# Altium footprint library SC0915.PcbLib: 1 footprints
Each footprint in its own frame and in the unit in brackets; x right, y up, seen from the top. Pads: shape width x height; smd on the part's side, far side on the other; paste and mask are expansions set on the pad; w line width, h text height; cw(c..) or ccw(c..) is an arc to the next point about the centre after c.
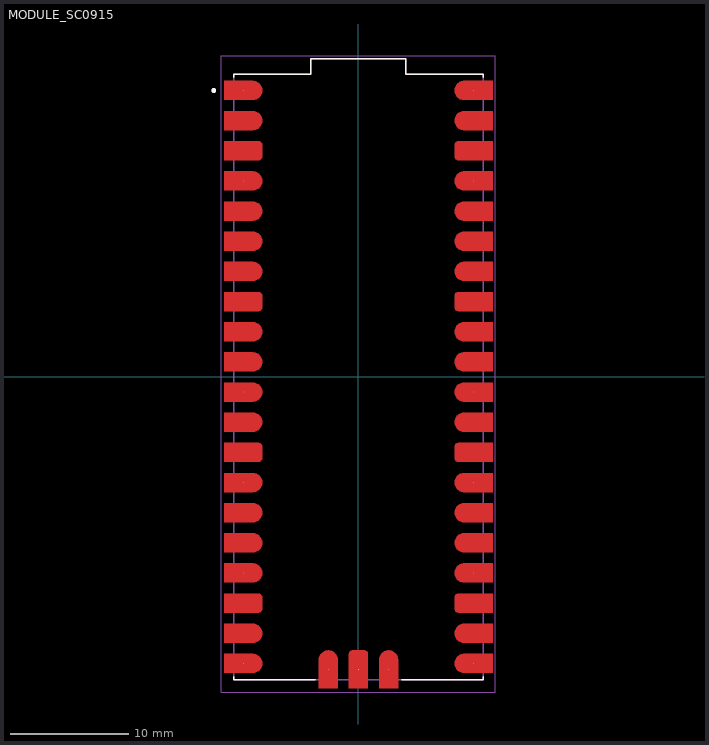
[diagram p0: the footprint, top view; thin cyan lines are the x and y axes]

## MODULE_SC0915 [mil]
pads (43):
  round 1 smd paste-39.37 mask+3.94: 1(-381.89,950) 2(-381.89,850) 3(-381.89,750.38) 4(-381.89,650) 5(-381.89,550) 6(-381.89,450) 7(-381.89,350) 8(-381.89,250) 9(-381.89,150) 10(-381.89,50) 11(-381.89,-50) 12(-381.89,-150) 13(-381.89,-250) 14(-381.89,-350) 15(-381.89,-450) 16(-381.89,-550) 17(-381.89,-650) 18(-381.89,-750) 19(-381.89,-850) 20(-381.89,-950) 21(381.89,-950) 22(381.89,-850) 23(381.89,-750) 24(381.89,-650) 25(381.89,-550) 26(381.89,-450) 27(381.89,-350) 28(381.89,-250) 29(381.89,-150) 30(381.89,-50) 31(381.89,50) 32(381.89,150) 33(381.89,250) 34(381.89,350) 35(381.89,450) 36(381.89,550) 37(381.89,650) 38(381.89,750) 39(381.89,850) 40(381.89,950) D1(-100,-970) D2(0,-970) D3(100,-970)
Top Layer:
  region: 68.5,-1032.99 131.5,-1032.99 131.5,-938.5 131.5,-936.44 130.96,-932.35 129.89,-928.36 128.31,-924.54 126.24,-920.97 123.73,-917.69 120.81,-914.77 117.54,-912.26 113.96,-910.2 110.15,-908.62 106.16,-907.55 102.06,-907.01 100,-907.01 97.94,-907.01 93.84,-907.55 89.85,-908.62 86.04,-910.2 82.46,-912.26 79.19,-914.77 76.27,-917.69 73.76,-920.97 71.69,-924.54 70.11,-928.36 69.04,-932.35 68.5,-936.44 68.5,-938.5
  region: -31.5,-1032.99 31.5,-1032.99 31.5,-919.61 31.5,-918.37 31.01,-915.93 30.06,-913.64 28.68,-911.58 26.93,-909.82 24.87,-908.44 22.57,-907.49 20.14,-907.01 18.9,-907.01 -18.9,-907.01 -20.14,-907.01 -22.57,-907.49 -24.87,-908.44 -26.93,-909.82 -28.68,-911.58 -30.06,-913.64 -31.01,-915.93 -31.5,-918.37 -31.5,-919.61
  region: -131.5,-1032.99 -68.5,-1032.99 -68.5,-938.5 -68.5,-936.44 -69.04,-932.35 -70.11,-928.36 -71.69,-924.54 -73.76,-920.97 -76.27,-917.69 -79.19,-914.77 -82.46,-912.26 -86.04,-910.2 -89.85,-908.62 -93.84,-907.55 -97.94,-907.01 -100,-907.01 -102.06,-907.01 -106.16,-907.55 -110.15,-908.62 -113.96,-910.2 -117.54,-912.26 -120.81,-914.77 -123.73,-917.69 -126.24,-920.97 -128.31,-924.54 -129.89,-928.36 -130.96,-932.35 -131.5,-936.44 -131.5,-938.5
  region: -444.88,918.5 -350.39,918.5 -348.33,918.5 -344.24,919.04 -340.25,920.11 -336.43,921.69 -332.86,923.76 -329.58,926.27 -326.66,929.19 -324.15,932.46 -322.09,936.04 -320.51,939.85 -319.44,943.84 -318.9,947.94 -318.9,950 -318.9,952.06 -319.44,956.16 -320.51,960.15 -322.09,963.96 -324.15,967.54 -326.66,970.81 -329.58,973.73 -332.86,976.24 -336.43,978.31 -340.25,979.89 -344.24,980.96 -348.33,981.5 -350.39,981.5 -444.88,981.5
  region: 318.9,-768.9 318.9,-770.14 319.38,-772.57 320.33,-774.87 321.71,-776.93 323.46,-778.68 325.53,-780.06 327.82,-781.01 330.26,-781.5 331.5,-781.5 444.88,-781.5 444.88,-718.5 331.5,-718.5 330.26,-718.5 327.82,-718.99 325.53,-719.94 323.46,-721.32 321.71,-723.07 320.33,-725.13 319.38,-727.43 318.9,-729.86 318.9,-731.1
  region: 318.9,-268.9 318.9,-270.14 319.38,-272.57 320.33,-274.87 321.71,-276.93 323.46,-278.68 325.53,-280.06 327.82,-281.01 330.26,-281.5 331.5,-281.5 444.88,-281.5 444.88,-218.5 331.5,-218.5 330.26,-218.5 327.82,-218.99 325.53,-219.94 323.46,-221.32 321.71,-223.07 320.33,-225.13 319.38,-227.43 318.9,-229.86 318.9,-231.1
  region: 318.9,231.1 318.9,229.86 319.38,227.43 320.33,225.13 321.71,223.07 323.46,221.32 325.53,219.94 327.82,218.99 330.26,218.5 331.5,218.5 444.88,218.5 444.88,281.5 331.5,281.5 330.26,281.5 327.82,281.01 325.53,280.06 323.46,278.68 321.71,276.93 320.33,274.87 319.38,272.57 318.9,270.14 318.9,268.9
  region: 318.9,-950 318.9,-952.06 319.44,-956.16 320.51,-960.15 322.09,-963.96 324.15,-967.54 326.66,-970.81 329.58,-973.73 332.86,-976.24 336.43,-978.31 340.25,-979.89 344.24,-980.96 348.33,-981.5 350.39,-981.5 444.88,-981.5 444.88,-918.5 350.39,-918.5 348.33,-918.5 344.24,-919.04 340.25,-920.11 336.43,-921.69 332.86,-923.76 329.58,-926.27 326.66,-929.19 324.15,-932.46 322.09,-936.04 320.51,-939.85 319.44,-943.84 318.9,-947.94
  region: 318.9,-850 318.9,-852.06 319.44,-856.16 320.51,-860.15 322.09,-863.96 324.15,-867.54 326.66,-870.81 329.58,-873.73 332.86,-876.24 336.43,-878.31 340.25,-879.89 344.24,-880.96 348.33,-881.5 350.39,-881.5 444.88,-881.5 444.88,-818.5 350.39,-818.5 348.33,-818.5 344.24,-819.04 340.25,-820.11 336.43,-821.69 332.86,-823.76 329.58,-826.27 326.66,-829.19 324.15,-832.46 322.09,-836.04 320.51,-839.85 319.44,-843.84 318.9,-847.94
  region: 318.9,-650 318.9,-652.06 319.44,-656.16 320.51,-660.15 322.09,-663.96 324.15,-667.54 326.66,-670.81 329.58,-673.73 332.86,-676.24 336.43,-678.31 340.25,-679.89 344.24,-680.96 348.33,-681.5 350.39,-681.5 444.88,-681.5 444.88,-618.5 350.39,-618.5 348.33,-618.5 344.24,-619.04 340.25,-620.11 336.43,-621.69 332.86,-623.76 329.58,-626.27 326.66,-629.19 324.15,-632.46 322.09,-636.04 320.51,-639.85 319.44,-643.84 318.9,-647.94
  region: 318.9,-550 318.9,-552.06 319.44,-556.16 320.51,-560.15 322.09,-563.96 324.15,-567.54 326.66,-570.81 329.58,-573.73 332.86,-576.24 336.43,-578.31 340.25,-579.89 344.24,-580.96 348.33,-581.5 350.39,-581.5 444.88,-581.5 444.88,-518.5 350.39,-518.5 348.33,-518.5 344.24,-519.04 340.25,-520.11 336.43,-521.69 332.86,-523.76 329.58,-526.27 326.66,-529.19 324.15,-532.46 322.09,-536.04 320.51,-539.85 319.44,-543.84 318.9,-547.94
  region: 318.9,-450 318.9,-452.06 319.44,-456.16 320.51,-460.15 322.09,-463.96 324.15,-467.54 326.66,-470.81 329.58,-473.73 332.86,-476.24 336.43,-478.31 340.25,-479.89 344.24,-480.96 348.33,-481.5 350.39,-481.5 444.88,-481.5 444.88,-418.5 350.39,-418.5 348.33,-418.5 344.24,-419.04 340.25,-420.11 336.43,-421.69 332.86,-423.76 329.58,-426.27 326.66,-429.19 324.15,-432.46 322.09,-436.04 320.51,-439.85 319.44,-443.84 318.9,-447.94
  region: 318.9,-350 318.9,-352.06 319.44,-356.16 320.51,-360.15 322.09,-363.96 324.15,-367.54 326.66,-370.81 329.58,-373.73 332.86,-376.24 336.43,-378.31 340.25,-379.89 344.24,-380.96 348.33,-381.5 350.39,-381.5 444.88,-381.5 444.88,-318.5 350.39,-318.5 348.33,-318.5 344.24,-319.04 340.25,-320.11 336.43,-321.69 332.86,-323.76 329.58,-326.27 326.66,-329.19 324.15,-332.46 322.09,-336.04 320.51,-339.85 319.44,-343.84 318.9,-347.94
  region: 318.9,-150 318.9,-152.06 319.44,-156.16 320.51,-160.15 322.09,-163.96 324.15,-167.54 326.66,-170.81 329.58,-173.73 332.86,-176.24 336.43,-178.31 340.25,-179.89 344.24,-180.96 348.33,-181.5 350.39,-181.5 444.88,-181.5 444.88,-118.5 350.39,-118.5 348.33,-118.5 344.24,-119.04 340.25,-120.11 336.43,-121.69 332.86,-123.76 329.58,-126.27 326.66,-129.19 324.15,-132.46 322.09,-136.04 320.51,-139.85 319.44,-143.84 318.9,-147.94
  region: 318.9,-50 318.9,-52.06 319.44,-56.16 320.51,-60.15 322.09,-63.96 324.15,-67.54 326.66,-70.81 329.58,-73.73 332.86,-76.24 336.43,-78.31 340.25,-79.89 344.24,-80.96 348.33,-81.5 350.39,-81.5 444.88,-81.5 444.88,-18.5 350.39,-18.5 348.33,-18.5 344.24,-19.04 340.25,-20.11 336.43,-21.69 332.86,-23.76 329.58,-26.27 326.66,-29.19 324.15,-32.46 322.09,-36.04 320.51,-39.85 319.44,-43.84 318.9,-47.94
  region: 318.9,50 318.9,47.94 319.44,43.84 320.51,39.85 322.09,36.04 324.15,32.46 326.66,29.19 329.58,26.27 332.86,23.76 336.43,21.69 340.25,20.11 344.24,19.04 348.33,18.5 350.39,18.5 444.88,18.5 444.88,81.5 350.39,81.5 348.33,81.5 344.24,80.96 340.25,79.89 336.43,78.31 332.86,76.24 329.58,73.73 326.66,70.81 324.15,67.54 322.09,63.96 320.51,60.15 319.44,56.16 318.9,52.06
  region: 318.9,150 318.9,147.94 319.44,143.84 320.51,139.85 322.09,136.04 324.15,132.46 326.66,129.19 329.58,126.27 332.86,123.76 336.43,121.69 340.25,120.11 344.24,119.04 348.33,118.5 350.39,118.5 444.88,118.5 444.88,181.5 350.39,181.5 348.33,181.5 344.24,180.96 340.25,179.89 336.43,178.31 332.86,176.24 329.58,173.73 326.66,170.81 324.15,167.54 322.09,163.96 320.51,160.15 319.44,156.16 318.9,152.06
  region: 350.39,318.5 348.33,318.5 344.24,319.04 340.25,320.11 336.43,321.69 332.86,323.76 329.58,326.27 326.66,329.19 324.15,332.46 322.09,336.04 320.51,339.85 319.44,343.84 318.9,347.94 318.9,350 318.9,352.06 319.44,356.16 320.51,360.15 322.09,363.96 324.15,367.54 326.66,370.81 329.58,373.73 332.86,376.24 336.43,378.31 340.25,379.89 344.24,380.96 348.33,381.5 350.39,381.5 444.88,381.5 444.88,318.5
  region: 350.39,418.5 348.33,418.5 344.24,419.04 340.25,420.11 336.43,421.69 332.86,423.76 329.58,426.27 326.66,429.19 324.15,432.46 322.09,436.04 320.51,439.85 319.44,443.84 318.9,447.94 318.9,450 318.9,452.06 319.44,456.16 320.51,460.15 322.09,463.96 324.15,467.54 326.66,470.81 329.58,473.73 332.86,476.24 336.43,478.31 340.25,479.89 344.24,480.96 348.33,481.5 350.39,481.5 444.88,481.5 444.88,418.5
  region: 350.39,518.5 348.33,518.5 344.24,519.04 340.25,520.11 336.43,521.69 332.86,523.76 329.58,526.27 326.66,529.19 324.15,532.46 322.09,536.04 320.51,539.85 319.44,543.84 318.9,547.94 318.9,550 318.9,552.06 319.44,556.16 320.51,560.15 322.09,563.96 324.15,567.54 326.66,570.81 329.58,573.73 332.86,576.24 336.43,578.31 340.25,579.89 344.24,580.96 348.33,581.5 350.39,581.5 444.88,581.5 444.88,518.5
  region: 350.39,618.5 348.33,618.5 344.24,619.04 340.25,620.11 336.43,621.69 332.86,623.76 329.58,626.27 326.66,629.19 324.15,632.46 322.09,636.04 320.51,639.85 319.44,643.84 318.9,647.94 318.9,650 318.9,652.06 319.44,656.16 320.51,660.15 322.09,663.96 324.15,667.54 326.66,670.81 329.58,673.73 332.86,676.24 336.43,678.31 340.25,679.89 344.24,680.96 348.33,681.5 350.39,681.5 444.88,681.5 444.88,618.5
  region: 350.39,818.5 348.33,818.5 344.24,819.04 340.25,820.11 336.43,821.69 332.86,823.76 329.58,826.27 326.66,829.19 324.15,832.46 322.09,836.04 320.51,839.85 319.44,843.84 318.9,847.94 318.9,850 318.9,852.06 319.44,856.16 320.51,860.15 322.09,863.96 324.15,867.54 326.66,870.81 329.58,873.73 332.86,876.24 336.43,878.31 340.25,879.89 344.24,880.96 348.33,881.5 350.39,881.5 444.88,881.5 444.88,818.5
  region: -444.88,-781.5 -331.5,-781.5 -330.26,-781.5 -327.82,-781.01 -325.53,-780.06 -323.46,-778.68 -321.71,-776.93 -320.33,-774.87 -319.38,-772.57 -318.9,-770.14 -318.9,-768.9 -318.9,-731.1 -318.9,-729.86 -319.38,-727.43 -320.33,-725.13 -321.71,-723.07 -323.46,-721.32 -325.53,-719.94 -327.82,-718.99 -330.26,-718.5 -331.5,-718.5 -444.88,-718.5
  region: -444.88,-281.5 -331.5,-281.5 -330.26,-281.5 -327.82,-281.01 -325.53,-280.06 -323.46,-278.68 -321.71,-276.93 -320.33,-274.87 -319.38,-272.57 -318.9,-270.14 -318.9,-268.9 -318.9,-231.1 -318.9,-229.86 -319.38,-227.43 -320.33,-225.13 -321.71,-223.07 -323.46,-221.32 -325.53,-219.94 -327.82,-218.99 -330.26,-218.5 -331.5,-218.5 -444.88,-218.5
  region: -444.88,218.5 -331.5,218.5 -330.26,218.5 -327.82,218.99 -325.53,219.94 -323.46,221.32 -321.71,223.07 -320.33,225.13 -319.38,227.43 -318.9,229.86 -318.9,231.1 -318.9,268.9 -318.9,270.14 -319.38,272.57 -320.33,274.87 -321.71,276.93 -323.46,278.68 -325.53,280.06 -327.82,281.01 -330.26,281.5 -331.5,281.5 -444.88,281.5
  region: -444.88,718.88 -331.5,718.88 -330.26,718.88 -327.82,719.37 -325.53,720.32 -323.46,721.69 -321.71,723.45 -320.33,725.51 -319.38,727.81 -318.9,730.24 -318.9,731.48 -318.9,769.28 -318.9,770.52 -319.38,772.95 -320.33,775.24 -321.71,777.31 -323.46,779.06 -325.53,780.44 -327.82,781.39 -330.26,781.87 -331.5,781.87 -444.88,781.87
  region: -444.88,-981.5 -350.39,-981.5 -348.33,-981.5 -344.24,-980.96 -340.25,-979.89 -336.43,-978.31 -332.86,-976.24 -329.58,-973.73 -326.66,-970.81 -324.15,-967.54 -322.09,-963.96 -320.51,-960.15 -319.44,-956.16 -318.9,-952.06 -318.9,-950 -318.9,-947.94 -319.44,-943.84 -320.51,-939.85 -322.09,-936.04 -324.15,-932.46 -326.66,-929.19 -329.58,-926.27 -332.86,-923.76 -336.43,-921.69 -340.25,-920.11 -344.24,-919.04 -348.33,-918.5 -350.39,-918.5 -444.88,-918.5
  region: -444.88,-881.5 -350.39,-881.5 -348.33,-881.5 -344.24,-880.96 -340.25,-879.89 -336.43,-878.31 -332.86,-876.24 -329.58,-873.73 -326.66,-870.81 -324.15,-867.54 -322.09,-863.96 -320.51,-860.15 -319.44,-856.16 -318.9,-852.06 -318.9,-850 -318.9,-847.94 -319.44,-843.84 -320.51,-839.85 -322.09,-836.04 -324.15,-832.46 -326.66,-829.19 -329.58,-826.27 -332.86,-823.76 -336.43,-821.69 -340.25,-820.11 -344.24,-819.04 -348.33,-818.5 -350.39,-818.5 -444.88,-818.5
  region: -444.88,-681.5 -350.39,-681.5 -348.33,-681.5 -344.24,-680.96 -340.25,-679.89 -336.43,-678.31 -332.86,-676.24 -329.58,-673.73 -326.66,-670.81 -324.15,-667.54 -322.09,-663.96 -320.51,-660.15 -319.44,-656.16 -318.9,-652.06 -318.9,-650 -318.9,-647.94 -319.44,-643.84 -320.51,-639.85 -322.09,-636.04 -324.15,-632.46 -326.66,-629.19 -329.58,-626.27 -332.86,-623.76 -336.43,-621.69 -340.25,-620.11 -344.24,-619.04 -348.33,-618.5 -350.39,-618.5 -444.88,-618.5
  region: -444.88,-581.5 -350.39,-581.5 -348.33,-581.5 -344.24,-580.96 -340.25,-579.89 -336.43,-578.31 -332.86,-576.24 -329.58,-573.73 -326.66,-570.81 -324.15,-567.54 -322.09,-563.96 -320.51,-560.15 -319.44,-556.16 -318.9,-552.06 -318.9,-550 -318.9,-547.94 -319.44,-543.84 -320.51,-539.85 -322.09,-536.04 -324.15,-532.46 -326.66,-529.19 -329.58,-526.27 -332.86,-523.76 -336.43,-521.69 -340.25,-520.11 -344.24,-519.04 -348.33,-518.5 -350.39,-518.5 -444.88,-518.5
  region: -444.88,-481.5 -350.39,-481.5 -348.33,-481.5 -344.24,-480.96 -340.25,-479.89 -336.43,-478.31 -332.86,-476.24 -329.58,-473.73 -326.66,-470.81 -324.15,-467.54 -322.09,-463.96 -320.51,-460.15 -319.44,-456.16 -318.9,-452.06 -318.9,-450 -318.9,-447.94 -319.44,-443.84 -320.51,-439.85 -322.09,-436.04 -324.15,-432.46 -326.66,-429.19 -329.58,-426.27 -332.86,-423.76 -336.43,-421.69 -340.25,-420.11 -344.24,-419.04 -348.33,-418.5 -350.39,-418.5 -444.88,-418.5
  region: -444.88,-381.5 -350.39,-381.5 -348.33,-381.5 -344.24,-380.96 -340.25,-379.89 -336.43,-378.31 -332.86,-376.24 -329.58,-373.73 -326.66,-370.81 -324.15,-367.54 -322.09,-363.96 -320.51,-360.15 -319.44,-356.16 -318.9,-352.06 -318.9,-350 -318.9,-347.94 -319.44,-343.84 -320.51,-339.85 -322.09,-336.04 -324.15,-332.46 -326.66,-329.19 -329.58,-326.27 -332.86,-323.76 -336.43,-321.69 -340.25,-320.11 -344.24,-319.04 -348.33,-318.5 -350.39,-318.5 -444.88,-318.5
  region: -444.88,-181.5 -350.39,-181.5 -348.33,-181.5 -344.24,-180.96 -340.25,-179.89 -336.43,-178.31 -332.86,-176.24 -329.58,-173.73 -326.66,-170.81 -324.15,-167.54 -322.09,-163.96 -320.51,-160.15 -319.44,-156.16 -318.9,-152.06 -318.9,-150 -318.9,-147.94 -319.44,-143.84 -320.51,-139.85 -322.09,-136.04 -324.15,-132.46 -326.66,-129.19 -329.58,-126.27 -332.86,-123.76 -336.43,-121.69 -340.25,-120.11 -344.24,-119.04 -348.33,-118.5 -350.39,-118.5 -444.88,-118.5
  region: -444.88,-81.5 -350.39,-81.5 -348.33,-81.5 -344.24,-80.96 -340.25,-79.89 -336.43,-78.31 -332.86,-76.24 -329.58,-73.73 -326.66,-70.81 -324.15,-67.54 -322.09,-63.96 -320.51,-60.15 -319.44,-56.16 -318.9,-52.06 -318.9,-50 -318.9,-47.94 -319.44,-43.84 -320.51,-39.85 -322.09,-36.04 -324.15,-32.46 -326.66,-29.19 -329.58,-26.27 -332.86,-23.76 -336.43,-21.69 -340.25,-20.11 -344.24,-19.04 -348.33,-18.5 -350.39,-18.5 -444.88,-18.5
  region: -444.88,18.5 -350.39,18.5 -348.33,18.5 -344.24,19.04 -340.25,20.11 -336.43,21.69 -332.86,23.76 -329.58,26.27 -326.66,29.19 -324.15,32.46 -322.09,36.04 -320.51,39.85 -319.44,43.84 -318.9,47.94 -318.9,50 -318.9,52.06 -319.44,56.16 -320.51,60.15 -322.09,63.96 -324.15,67.54 -326.66,70.81 -329.58,73.73 -332.86,76.24 -336.43,78.31 -340.25,79.89 -344.24,80.96 -348.33,81.5 -350.39,81.5 -444.88,81.5
  region: -444.88,118.5 -350.39,118.5 -348.33,118.5 -344.24,119.04 -340.25,120.11 -336.43,121.69 -332.86,123.76 -329.58,126.27 -326.66,129.19 -324.15,132.46 -322.09,136.04 -320.51,139.85 -319.44,143.84 -318.9,147.94 -318.9,150 -318.9,152.06 -319.44,156.16 -320.51,160.15 -322.09,163.96 -324.15,167.54 -326.66,170.81 -329.58,173.73 -332.86,176.24 -336.43,178.31 -340.25,179.89 -344.24,180.96 -348.33,181.5 -350.39,181.5 -444.88,181.5
  region: -444.88,318.5 -350.39,318.5 -348.33,318.5 -344.24,319.04 -340.25,320.11 -336.43,321.69 -332.86,323.76 -329.58,326.27 -326.66,329.19 -324.15,332.46 -322.09,336.04 -320.51,339.85 -319.44,343.84 -318.9,347.94 -318.9,350 -318.9,352.06 -319.44,356.16 -320.51,360.15 -322.09,363.96 -324.15,367.54 -326.66,370.81 -329.58,373.73 -332.86,376.24 -336.43,378.31 -340.25,379.89 -344.24,380.96 -348.33,381.5 -350.39,381.5 -444.88,381.5
  region: -444.88,418.5 -350.39,418.5 -348.33,418.5 -344.24,419.04 -340.25,420.11 -336.43,421.69 -332.86,423.76 -329.58,426.27 -326.66,429.19 -324.15,432.46 -322.09,436.04 -320.51,439.85 -319.44,443.84 -318.9,447.94 -318.9,450 -318.9,452.06 -319.44,456.16 -320.51,460.15 -322.09,463.96 -324.15,467.54 -326.66,470.81 -329.58,473.73 -332.86,476.24 -336.43,478.31 -340.25,479.89 -344.24,480.96 -348.33,481.5 -350.39,481.5 -444.88,481.5
  region: -444.88,518.5 -350.39,518.5 -348.33,518.5 -344.24,519.04 -340.25,520.11 -336.43,521.69 -332.86,523.76 -329.58,526.27 -326.66,529.19 -324.15,532.46 -322.09,536.04 -320.51,539.85 -319.44,543.84 -318.9,547.94 -318.9,550 -318.9,552.06 -319.44,556.16 -320.51,560.15 -322.09,563.96 -324.15,567.54 -326.66,570.81 -329.58,573.73 -332.86,576.24 -336.43,578.31 -340.25,579.89 -344.24,580.96 -348.33,581.5 -350.39,581.5 -444.88,581.5
  region: -444.88,618.5 -350.39,618.5 -348.33,618.5 -344.24,619.04 -340.25,620.11 -336.43,621.69 -332.86,623.76 -329.58,626.27 -326.66,629.19 -324.15,632.46 -322.09,636.04 -320.51,639.85 -319.44,643.84 -318.9,647.94 -318.9,650 -318.9,652.06 -319.44,656.16 -320.51,660.15 -322.09,663.96 -324.15,667.54 -326.66,670.81 -329.58,673.73 -332.86,676.24 -336.43,678.31 -340.25,679.89 -344.24,680.96 -348.33,681.5 -350.39,681.5 -444.88,681.5
  region: -444.88,818.5 -350.39,818.5 -348.33,818.5 -344.24,819.04 -340.25,820.11 -336.43,821.69 -332.86,823.76 -329.58,826.27 -326.66,829.19 -324.15,832.46 -322.09,836.04 -320.51,839.85 -319.44,843.84 -318.9,847.94 -318.9,850 -318.9,852.06 -319.44,856.16 -320.51,860.15 -322.09,863.96 -324.15,867.54 -326.66,870.81 -329.58,873.73 -332.86,876.24 -336.43,878.31 -340.25,879.89 -344.24,880.96 -348.33,881.5 -350.39,881.5 -444.88,881.5
  region: 331.5,718.5 330.26,718.5 327.82,718.99 325.53,719.94 323.46,721.32 321.71,723.07 320.33,725.13 319.38,727.43 318.9,729.86 318.9,731.1 318.9,768.9 318.9,770.14 319.38,772.57 320.33,774.87 321.71,776.93 323.46,778.68 325.53,780.06 327.82,781.01 330.26,781.5 331.5,781.5 444.88,781.5 444.88,718.5
  region: 350.39,918.5 348.33,918.5 344.24,919.04 340.25,920.11 336.43,921.69 332.86,923.76 329.58,926.27 326.66,929.19 324.15,932.46 322.09,936.04 320.51,939.85 319.44,943.84 318.9,947.94 318.9,950 318.9,952.06 319.44,956.16 320.51,960.15 322.09,963.96 324.15,967.54 326.66,970.81 329.58,973.73 332.86,976.24 336.43,978.31 340.25,979.89 344.24,980.96 348.33,981.5 350.39,981.5 444.88,981.5 444.88,918.5
Top Overlay:
  circle w7.87: c-479.92,950 r3.94
  lines w5: -413.39,-994.09 -413.39,-1003.94 -144.09,-1003.94 ; -413.39,994.09 -413.39,1003.94 -157.48,1003.94 -157.48,1055.12 157.48,1055.12 157.48,1003.94 413.39,1003.94 413.39,994.09 ; 144.09,-1003.94 413.39,-1003.94 413.39,-994.09
Mechanical 13:
  circle w7.87: c-479.92,950 r3.94
  lines w5: -413.39,-1003.94 413.39,-1003.94 413.39,1003.94 157.48,1003.94 157.48,1055.12 -157.48,1055.12 -157.48,1003.94 -413.39,1003.94 -413.39,-1003.94
Mechanical 15:
  lines w1.97: -454.33,-1045.28 454.33,-1045.28 454.33,1064.96 -454.33,1064.96 -454.33,-1045.28
3D body "step_temp.STEP": height 146.85, standoff 0, extent -413.39,-1003.94 413.39,1055.12